# Altium footprint library 581-M09-213L462.PcbLib: 1 footprints
Each footprint in its own frame and in the unit in brackets; x right, y up, seen from the top. Pads: shape width x height; smd on the part's side, far side on the other; paste and mask are expansions set on the pad; w line width, h text height; cw(c..) or ccw(c..) is an arc to the next point about the centre after c.
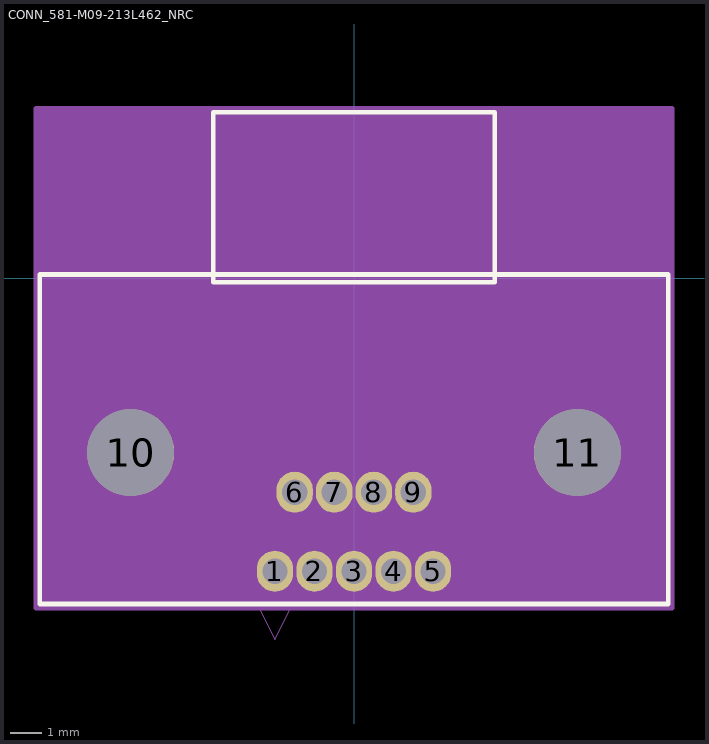
[diagram p0: the footprint, top view; thin cyan lines are the x and y axes]

## CONN_581-M09-213L462_NRC [mil]
pads (11):
  oval 46x52 / inner round 60 / far side oval 46x52 hole 32 paste-26 mask+0: 1(-100,-370.47) 2(-50,-370.47) 3(0,-370.47) 4(50,-370.47) 5(100,-370.47) 6(-75,-270.47) 7(-25,-270.47) 8(25,-270.47) 9(75,-270.47)
  round 110 / inner round 60 / far side round 110 hole 110 unplated paste-55 mask-55: 10(-282.48,-220.47) 11(282.48,-220.47)
Top Overlay:
  lines w6: -397.5,-412 -397.5,5 397.5,5 397.5,-412 -397.5,-412 ; -178,-5 -178,210 178,210 178,-5 -178,-5
Mechanical 13:
  lines w1: -125,-407 -100,-457 -75,-407 ; -392.5,-407 -392.5,0 392.5,0 392.5,-407 -392.5,-407 ; -173,0 -173,205 173,205 173,0 -173,0
Mechanical 15:
  region: 402.5,-417 402.5,215 -402.5,215 -402.5,-417
  lines w6: -402.5,-417 402.5,-417 402.5,215 -402.5,215 -402.5,-417
3D body "CONN_581-M09-213L462_NRC.step": height 307.01, standoff -125, extent -392.52,-437.72 392.52,174.29